# Altium schematic symbol library RES 18.7K 1_8W.Schlib: 1 symbol
Pins are listed as number, name and electrical type; pins without a type are passive.

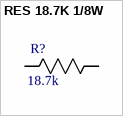
[diagram p0: symbol RES 18.7K 1/8W]

## RES 18.7K 1/8W
designator R?, comment 18.7k
RES SMD 18.7K OHM 1% 1/8W 0805; Power (Watts): 0.125W; Value: 18.7k; Tolerance: 1%; Package: 0805
footprint 0805
footprint 1206
footprint 0603
pins: 1 R1, 2 R2